# EAGLE library part BYP.2 (library mb3_supply pins)
I/O Pads for Bypass Switch Does not include J1 (input) and J2 (output) jack connections. Pads are 80mil Diameter, 47mil Drill. LED is soldered directly to + (anode) and - (cathode) pads. "L" is used to connect LED cathode to the 3PDT switch for toggling.
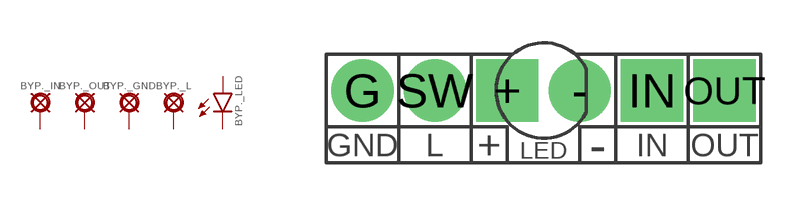
[diagram p1: symbol with the pads of IO.2; footprint IO.2]

Designator prefix BYP.; gates _IN=PAD _OUT=PAD _GND=PAD _L=PAD _LED=LED

## BYP.2  [IO.2]
+  _LED:+  pas
-  _LED:-  pas
G  _GND:PAD  pas
IN  _IN:PAD  pas
OUT  _OUT:PAD  pas
SW  _L:PAD  pas

## Footprint IO.2 (pad centres in mm)
drill 1.2 pad 2.184 square: + -1.27,0; IN 3.81,0; OUT 6.35,0
drill 1.2 pad 2.184: - 1.27,0; G -6.35,0; SW -3.81,0